# Altium integrated library opto.IntLib: 22 symbols
Pins are listed as number, name and electrical type; pins without a type are passive.

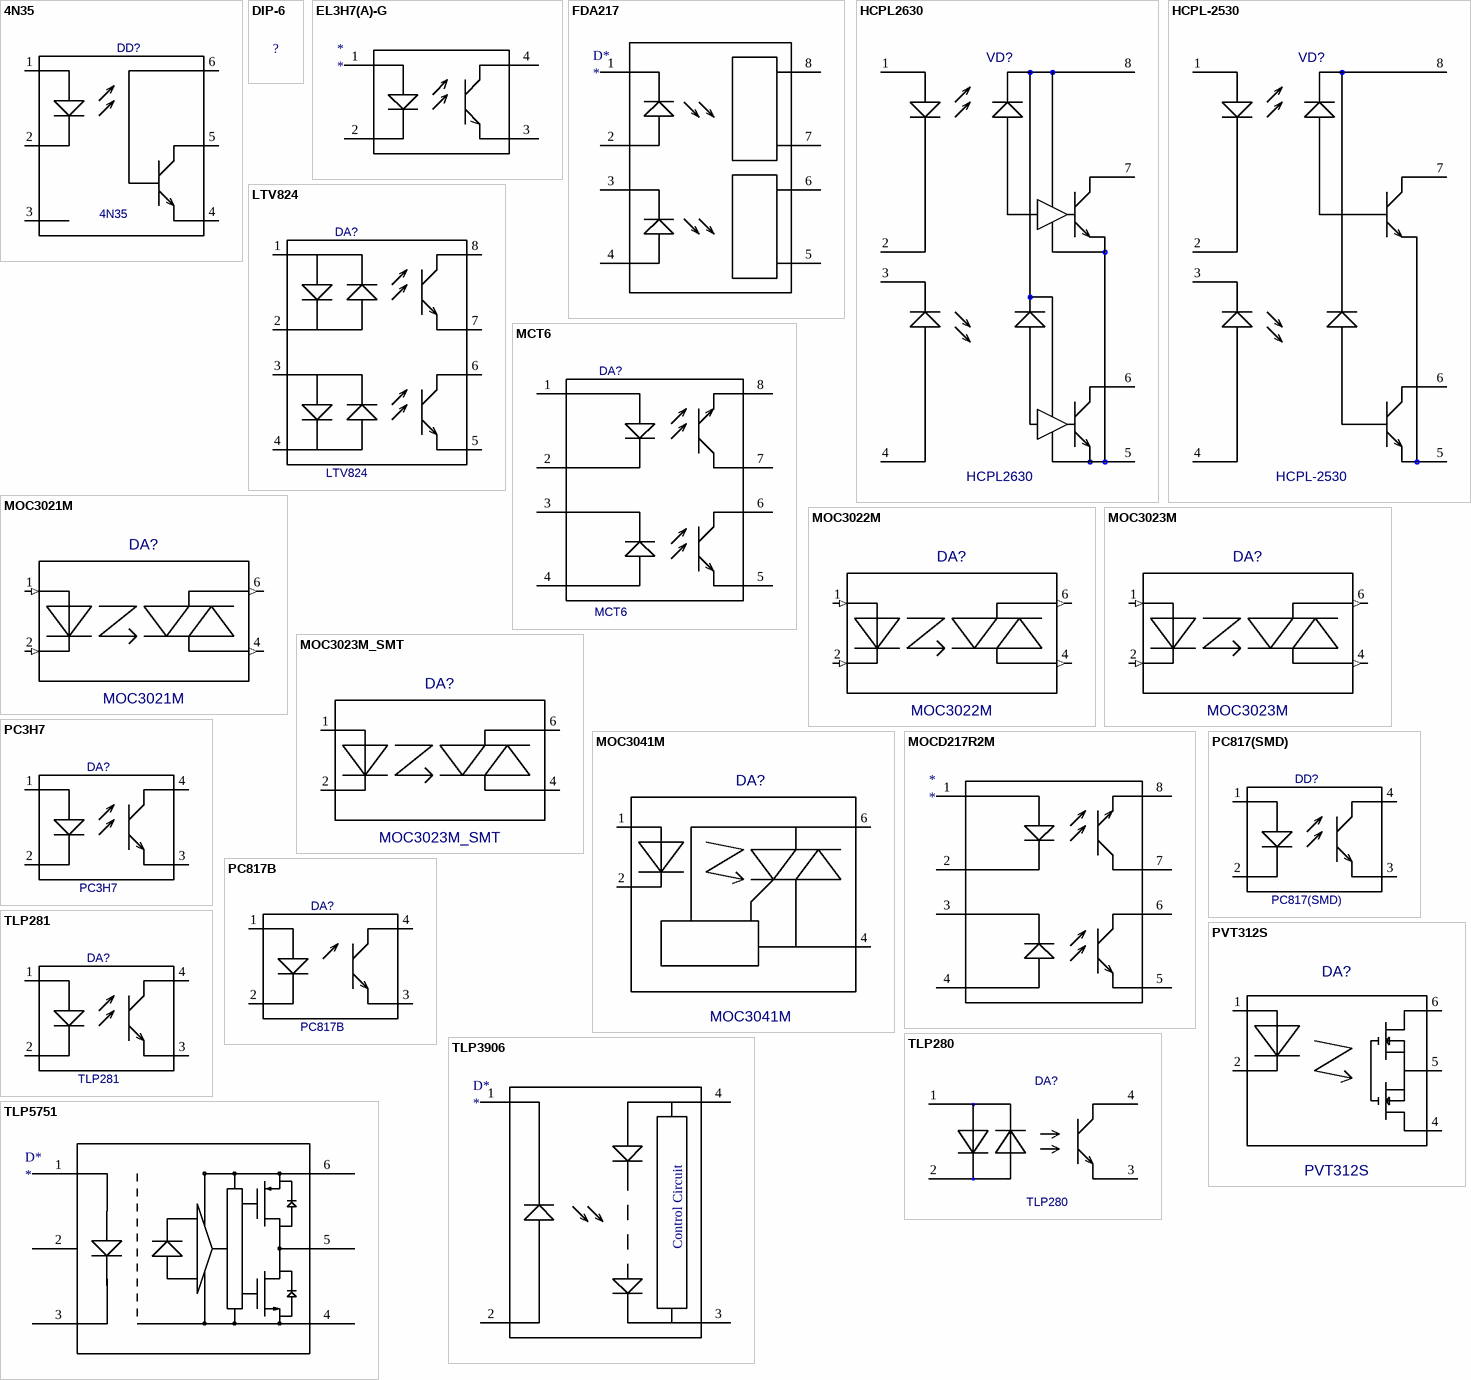
[diagram p0: symbols 4N35 to TLP5751]

## 4N35
designator DD?
Value: *
footprint DIP-6
pins: 1 A, 2 K, 3 NC, 4 E, 5 C, 6 B

## DIP-6
designator ?  (value not drawn)
Value: *
footprint DIP-6
pins: 1 hidden, 2 hidden, 3 hidden, 4 hidden, 5 hidden, 6 hidden

## EL3H7(A)-G
designator *
footprint 4-SSOP
pins: 1, 2, 3, 4

## FDA217
designator D*
footprint FDA217
pins: 1 K, 2 A, 3 K, 4 A, 5 +, 6 -, 7 +, 8 -

## HCPL2630
designator VD?
Value: *
footprint DIP-8
pins: 1 +, 2 -, 3 +, 4 -, 5 GND, 6 V02, 7 V01, 8 VCC

## HCPL-2530
designator VD?
Value: *
footprint DIP-8
pins: 1 +, 2 -, 3 +, 4 -, 5 GND, 6 V02, 7 V01, 8 VCC

## LTV824
designator DA?
Value: *
footprint LTV824
pins: 1 A1, 2 K1, 3 A2, 4 K2, 5 E2, 6 C2, 7 E1, 8 C1

## MCT6
designator DA?
Value: *
footprint LTV824S
footprint DIP-8
pins: 1 A1, 2 K1, 3 A2, 4 K2, 5 E2, 6 C2, 7 E1, 8 C1

## MOC3021M
designator DA?
Value: *
footprint MOC302XM
pins: 1 (in), 2 (in), 4 (out), 6 3 (out)

## MOC3022M
designator DA?
Value: *
footprint MOC302XM
pins: 1 (in), 2 (in), 4 (out), 6 3 (out)

## MOC3023M
designator DA?
Value: *
footprint MOC302XM
pins: 1 (in), 2 (in), 4 (out), 6 3 (out)

## MOC3023M_SMT
designator DA?
Value: *
footprint SMT-6
pins: 1, 2, 4, 6 3

## MOC3041M
designator DA?
Value: *
footprint MOC302XM
pins: 1, 2, 3 hidden, 4, 5 hidden, 6 3

## MOCD217R2M
designator *
footprint SOIC8
pins: 1 A1, 2 K1, 3 A2, 4 K2, 5 E2, 6 C2, 7 E1, 8 C1

## PC3H7
designator DA?
Value: *
footprint PC3H7
pins: 1 A, 2 K, 3 E, 4 C

## PC817(SMD)
designator DD?
Value: *
footprint SO-4_PC817(SMD)(Primary)
pins: 1, 2, 3, 4

## PC817B
designator DA?
Value: *
footprint DIP4
pins: 1, 2, 3, 4

## PVT312S
designator DA?
Value: *
footprint SMT-6
pins: 1, 2, 4, 5, 6 3

## TLP280
designator DA?
Value: *
footprint TLP280
pins: 1 AK, 2 KA, 3 E, 4 C

## TLP281
designator DA?
Value: *
footprint TLP280
pins: 1 A, 2 K, 3 E, 4 C

## TLP3906
designator D*
footprint TLP3906
pins: 1 A, 2 K, 3 K, 4 A
text: Control Circuit

## TLP5751
designator D*
footprint TLP5751
footprint TLP5751_WIDE
pins: 1 Anode, 2 NC, 3 Cathode, 4 GND, 5 Vout, 6 Vcc